# EAGLE library part DRV8312_DDW_44 (library DRV83x2Support)
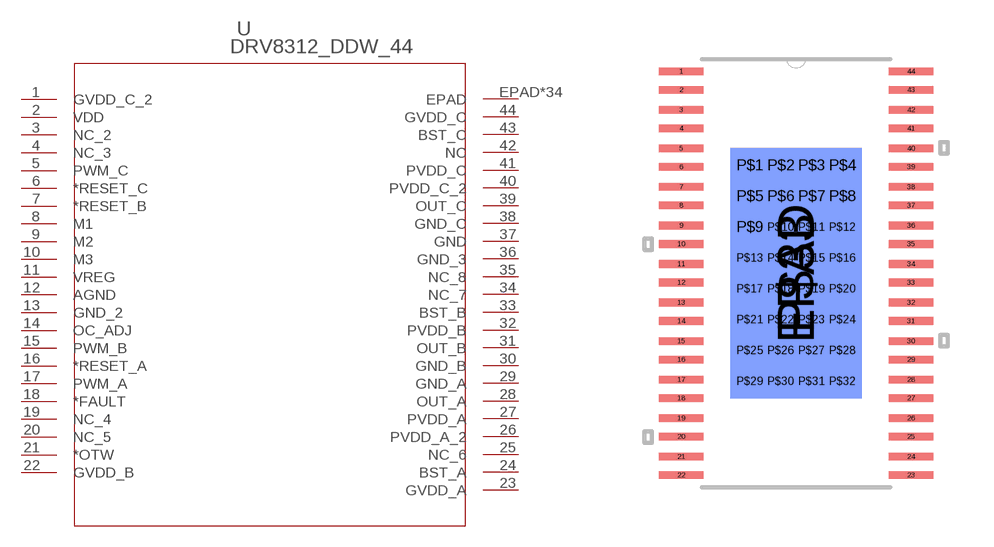
[diagram p1: symbol with the pads of DDW44_8P26X4P31; footprint DDW44_8P26X4P31]

Designator prefix U

## DRV8312_DDW_44 (DATASHEETURL: http://www.ti.com/lit/gpn/DRV8312; DESCRIPTION: 6.5A Three Phase Brushless DC Motor Driver with Inrush Protection (PWM Ctrl); FAMILY_NAME: 3-PHASE BRUSHLESS DRIVER; GENERIC_PART_NUMBER: DRV8312; INDUSTRY_STD_PKG_TYPE: HTSSOP; MANUFACTURER: Texas Instruments; MANUFACTURER_PART_NUMBER: drv8312_ddw_44; PACKAGE_DESIGNATOR: DDW; PIN_COUNT: 44; VENDOR: Texas Instruments)  [DDW44_8P26X4P31]
1  GVDD_C_2  pwr
2  VDD  pwr
3  NC_2  pas
4  NC_3  pas
5  PWM_C  in
6  *RESET_C  in
7  *RESET_B  in
8  M1  in
9  M2  in
10  M3  in
11  VREG  pwr
12  AGND  pwr
13  GND_2  pwr
14  OC_ADJ  out
15  PWM_B  in
16  *RESET_A  in
17  PWM_A  in
18  *FAULT  out
19  NC_4  pas
20  NC_5  pas
21  *OTW  out
22  GVDD_B  pwr
23  GVDD_A  pwr
24  BST_A  pwr
25  NC_6  pas
26  PVDD_A_2  pwr
27  PVDD_A  pwr
28  OUT_A  out
29  GND_A  pwr
30  GND_B  pwr
31  OUT_B  out
32  PVDD_B  pwr
33  BST_B  pwr
34  NC_7  pas
35  NC_8  pas
36  GND_3  pwr
37  GND  pwr
38  GND_C  pwr
39  OUT_C  out
40  PVDD_C_2  pwr
41  PVDD_C  pwr
42  NC  pas
43  BST_C  pwr
44  GVDD_C  pwr
EPAD  EPAD  pas
P$1  EPAD  pas
P$2  EPAD  pas
P$3  EPAD  pas
P$4  EPAD  pas
P$5  EPAD  pas
P$6  EPAD  pas
P$7  EPAD  pas
P$8  EPAD  pas
P$9  EPAD  pas
P$10  EPAD  pas
P$11  EPAD  pas
P$12  EPAD  pas
P$13  EPAD  pas
P$14  EPAD  pas
P$15  EPAD  pas
P$16  EPAD  pas
P$17  EPAD  pas
P$18  EPAD  pas
P$19  EPAD  pas
P$20  EPAD  pas
P$21  EPAD  pas
P$22  EPAD  pas
P$23  EPAD  pas
P$24  EPAD  pas
P$25  EPAD  pas
P$26  EPAD  pas
P$27  EPAD  pas
P$28  EPAD  pas
P$29  EPAD  pas
P$30  EPAD  pas
P$31  EPAD  pas
P$32  EPAD  pas
P$33  EPAD  pas

## Footprint DDW44_8P26X4P31 (pad centres in mm)
smd 1.473 x 0.254: 1 -3.785,6.655; 2 -3.785,6.045; 3 -3.785,5.385; 4 -3.785,4.775; 5 -3.785,4.115; 6 -3.785,3.505; 7 -3.785,2.845; 8 -3.785,2.235; 9 -3.785,1.575; 10 -3.785,0.965; 11 -3.785,0.305; 12 -3.785,-0.305; 13 -3.785,-0.965; 14 -3.785,-1.575; 15 -3.785,-2.235; 16 -3.785,-2.845; 17 -3.785,-3.505; 18 -3.785,-4.115; 19 -3.785,-4.775; 20 -3.785,-5.385; 21 -3.785,-6.045; 22 -3.785,-6.655; 23 3.785,-6.655; 24 3.785,-6.045; 25 3.785,-5.385; 26 3.785,-4.775; 27 3.785,-4.115; 28 3.785,-3.505; 29 3.785,-2.845; 30 3.785,-2.235; 31 3.785,-1.575; 32 3.785,-0.965; 33 3.785,-0.305; 34 3.785,0.305; 35 3.785,0.965; 36 3.785,1.575; 37 3.785,2.235; 38 3.785,2.845; 39 3.785,3.505; 40 3.785,4.115; 41 3.785,4.775; 42 3.785,5.385; 43 3.785,6.045; 44 3.785,6.655
smd 4.318 x 8.255: EPAD 0,0
drill 0.305 square: P$1 -1.524,3.556; P$2 -0.508,3.556; P$3 0.508,3.556; P$4 1.524,3.556; P$5 -1.524,2.54; P$6 -0.508,2.54; P$7 0.508,2.54; P$8 1.524,2.54; P$9 -1.524,1.524; P$10 -0.508,1.524; P$11 0.508,1.524; P$12 1.524,1.524; P$13 -1.524,0.508; P$14 -0.508,0.508; P$15 0.508,0.508; P$16 1.524,0.508; P$17 -1.524,-0.508; P$18 -0.508,-0.508; P$19 0.508,-0.508; P$20 1.524,-0.508; P$21 -1.524,-1.524; P$22 -0.508,-1.524; P$23 0.508,-1.524; P$24 1.524,-1.524; P$25 -1.524,-2.54; P$26 -0.508,-2.54; P$27 0.508,-2.54; P$28 1.524,-2.54; P$29 -1.524,-3.556; P$30 -0.508,-3.556; P$31 0.508,-3.556; P$32 1.524,-3.556
smd 4.318 x 8.255 bottom: P$33 0,0